# EAGLE library part 161-10 (library hammond)
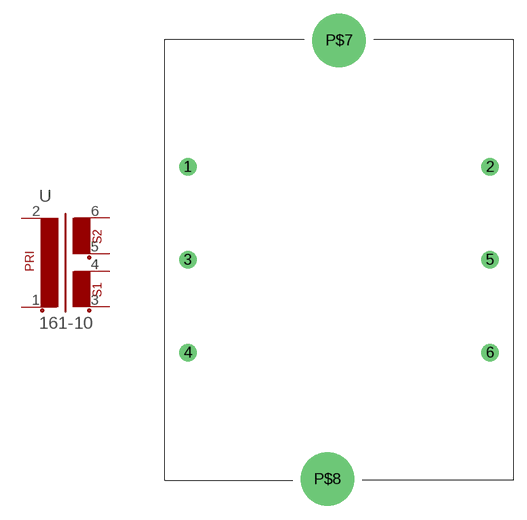
[diagram p0: symbol with the pads of 161-10; footprint 161-10]

Designator prefix -

## 161-10  [161-10]
1  2  pas
2  1  pas
3  3  pas
4  4  pas
5  5  pas
6  6  pas

## Footprint 161-10 (pad centres in mm)
drill 1.27: 1 -16.51,10.16; 2 16.51,10.16; 3 -16.51,0; 4 -16.51,-10.16; 5 16.51,0; 6 16.51,-10.16
drill 4.826: P$7 0,24.003; P$8 -1.27,-24.003